# EAGLE library part TPS71913-28DRVR (library TPS71913-28DRVR)
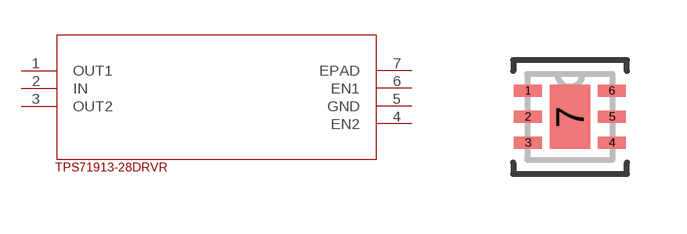
[diagram p0: symbol with the pads of DRV6_1P6X1; footprint DRV6_1P6X1]

Designator prefix U

## TPS71913-28DRVR (BUILT_BY: EMA_UL_Team; MANUFACTURER: Texas Instruments; MANUFACTURER_PART_NUMBER: TPS71913-28DRVR; SOURCELIBRARY: TI_2014-06-19; VENDOR: Texas Instruments)  [DRV6_1P6X1]
1  OUT1  out
2  IN  in
3  OUT2  out
4  EN2  pas
5  GND  pwr
6  EN1  pas
7  EPAD  pas

## Footprint DRV6_1P6X1 (pad centres in mm)
smd 0.7 x 0.3: 1 -1.05,0.65; 2 -1.05,0; 3 -1.05,-0.65; 4 1.05,-0.65; 5 1.05,0; 6 1.05,0.65
smd 1.016 x 1.6: 7 0,0